# EAGLE library part MCP2515T-I/SO (library Softgalaxy Pi HAT Lib-Eagle)
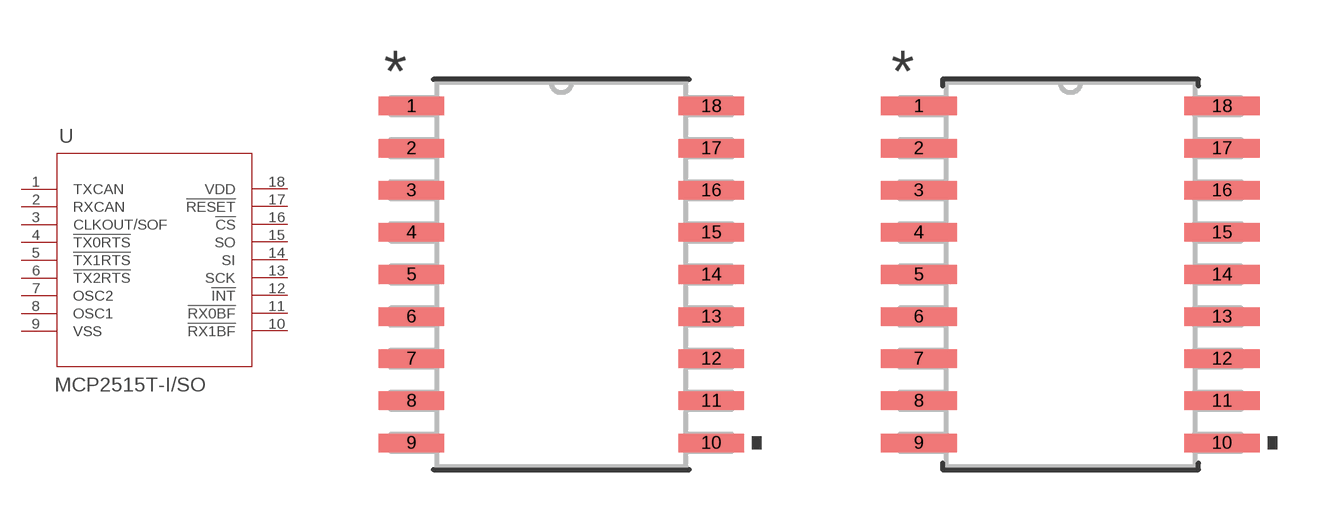
[diagram p6: symbol with the pads of SOIC18-W_MC_MCH; footprints SOIC18-W_MC_MCH, SOIC18-W_MC_MCH-M]

Designator prefix U

## MCP2515T-I/SO (COPYRIGHT: Copyright (C) 2021 Ultra Librarian. All rights reserved.; DIGI-KEY_PART_NUMBER_1: MCP2515T-I/SOCT-ND; DIGI-KEY_PART_NUMBER_2: MCP2515T-I/SODKR-ND; DIGI-KEY_PART_NUMBER_3: MCP2515T-I/SOTR-ND; MANUFACTURER_PART_NUMBER: MCP2515T-I/SO; MFR_NAME: Microchip)  [SOIC18-W_MC_MCH]
1  TXCAN  pas
2  RXCAN  pas
3  CLKOUT/SOF  pas
4  !TX0RTS  pas
5  !TX1RTS  pas
6  !TX2RTS  pas
7  OSC2  pas
8  OSC1  pas
9  VSS  pas
10  !RX1BF  pas
11  !RX0BF  pas
12  !INT  pas
13  SCK  pas
14  SI  pas
15  SO  pas
16  !CS  pas
17  !RESET  pas
18  VDD  pas

## MCP2515T-I/SOSOIC18-W_MC_MCH-M (COPYRIGHT: Copyright (C) 2021 Ultra Librarian. All rights reserved.; DIGI-KEY_PART_NUMBER_1: MCP2515T-I/SOCT-ND; DIGI-KEY_PART_NUMBER_2: MCP2515T-I/SODKR-ND; DIGI-KEY_PART_NUMBER_3: MCP2515T-I/SOTR-ND; MANUFACTURER_PART_NUMBER: MCP2515T-I/SO; MFR_NAME: Microchip)  [SOIC18-W_MC_MCH-M]
Pads as for SOIC18-W_MC_MCH

## MCP2515T-I/SOSOIC18-W_MC_MCH-L (COPYRIGHT: Copyright (C) 2021 Ultra Librarian. All rights reserved.; DIGI-KEY_PART_NUMBER_1: MCP2515T-I/SOCT-ND; DIGI-KEY_PART_NUMBER_2: MCP2515T-I/SODKR-ND; DIGI-KEY_PART_NUMBER_3: MCP2515T-I/SOTR-ND; MANUFACTURER_PART_NUMBER: MCP2515T-I/SO; MFR_NAME: Microchip)  [SOIC18-W_MC_MCH-L]
Pads as for SOIC18-W_MC_MCH

## Footprint SOIC18-W_MC_MCH (pad centres in mm)
smd 1.981 x 0.559: 1 -4.521,5.08; 2 -4.521,3.81; 3 -4.521,2.54; 4 -4.521,1.27; 5 -4.521,0; 6 -4.521,-1.27; 7 -4.521,-2.54; 8 -4.521,-3.81; 9 -4.521,-5.08; 10 4.521,-5.08; 11 4.521,-3.81; 12 4.521,-2.54; 13 4.521,-1.27; 14 4.521,0; 15 4.521,1.27; 16 4.521,2.54; 17 4.521,3.81; 18 4.521,5.08

## Footprint SOIC18-W_MC_MCH-M (pad centres in mm)
smd 2.286 x 0.559: 1 -4.572,5.08; 2 -4.572,3.81; 3 -4.572,2.54; 4 -4.572,1.27; 5 -4.572,0; 6 -4.572,-1.27; 7 -4.572,-2.54; 8 -4.572,-3.81; 9 -4.572,-5.08; 10 4.572,-5.08; 11 4.572,-3.81; 12 4.572,-2.54; 13 4.572,-1.27; 14 4.572,0; 15 4.572,1.27; 16 4.572,2.54; 17 4.572,3.81; 18 4.572,5.08

## Footprint SOIC18-W_MC_MCH-L (pad centres in mm)
smd 1.676 x 0.508: 1 -4.47,5.08; 2 -4.47,3.81; 3 -4.47,2.54; 4 -4.47,1.27; 5 -4.47,0; 6 -4.47,-1.27; 7 -4.47,-2.54; 8 -4.47,-3.81; 9 -4.47,-5.08; 10 4.47,-5.08; 11 4.47,-3.81; 12 4.47,-2.54; 13 4.47,-1.27; 14 4.47,0; 15 4.47,1.27; 16 4.47,2.54; 17 4.47,3.81; 18 4.47,5.08